# Altium footprint library HIH-5030-001.PcbLib: 1 footprints
Each footprint in its own frame and in the unit in brackets; x right, y up, seen from the top. Pads: shape width x height; smd on the part's side, far side on the other; paste and mask are expansions set on the pad; w line width, h text height; cw(c..) or ccw(c..) is an arc to the next point about the centre after c.
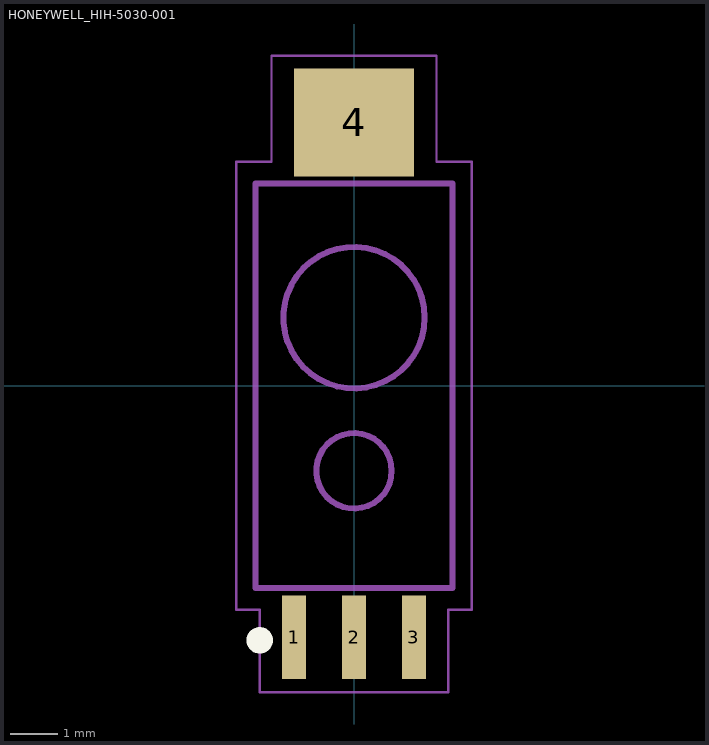
[diagram p0: the footprint, top view; thin cyan lines are the x and y axes]

## HONEYWELL_HIH-5030-001 [mm]
pads (4):
  rect 0.51x1.78 smd: 1(-1.27,-5.335) 2(0,-5.335) 3(1.27,-5.335)
  rect 2.54x2.29 smd: 4(0,5.59)
Top Overlay:
  circle w0.28: c-2,-5.4 r0.14
Mechanical 13:
  circle w0.127: c0,1.445 r1.5
  circle w0.127: c0,-1.805 r0.8
  lines w0.127: -2.085,-4.295 -2.085,4.295 2.085,4.295 2.085,-4.295 -2.085,-4.295
Mechanical 15:
  lines w0.05: -2.5,-4.75 -2.5,4.75 -1.75,4.75 -1.75,7 1.75,7 1.75,4.75 2.5,4.75 2.5,-4.75 2,-4.75 2,-6.5 -2,-6.5 -2,-4.75 -2.5,-4.75